# Altium footprint library PCB.PcbLib: 41 footprints (part 1 of 3)
Each footprint in its own frame and in the unit in brackets; x right, y up, seen from the top. Pads: shape width x height; smd on the part's side, far side on the other; paste and mask are expansions set on the pad; w line width, h text height; cw(c..) or ccw(c..) is an arc to the next point about the centre after c.
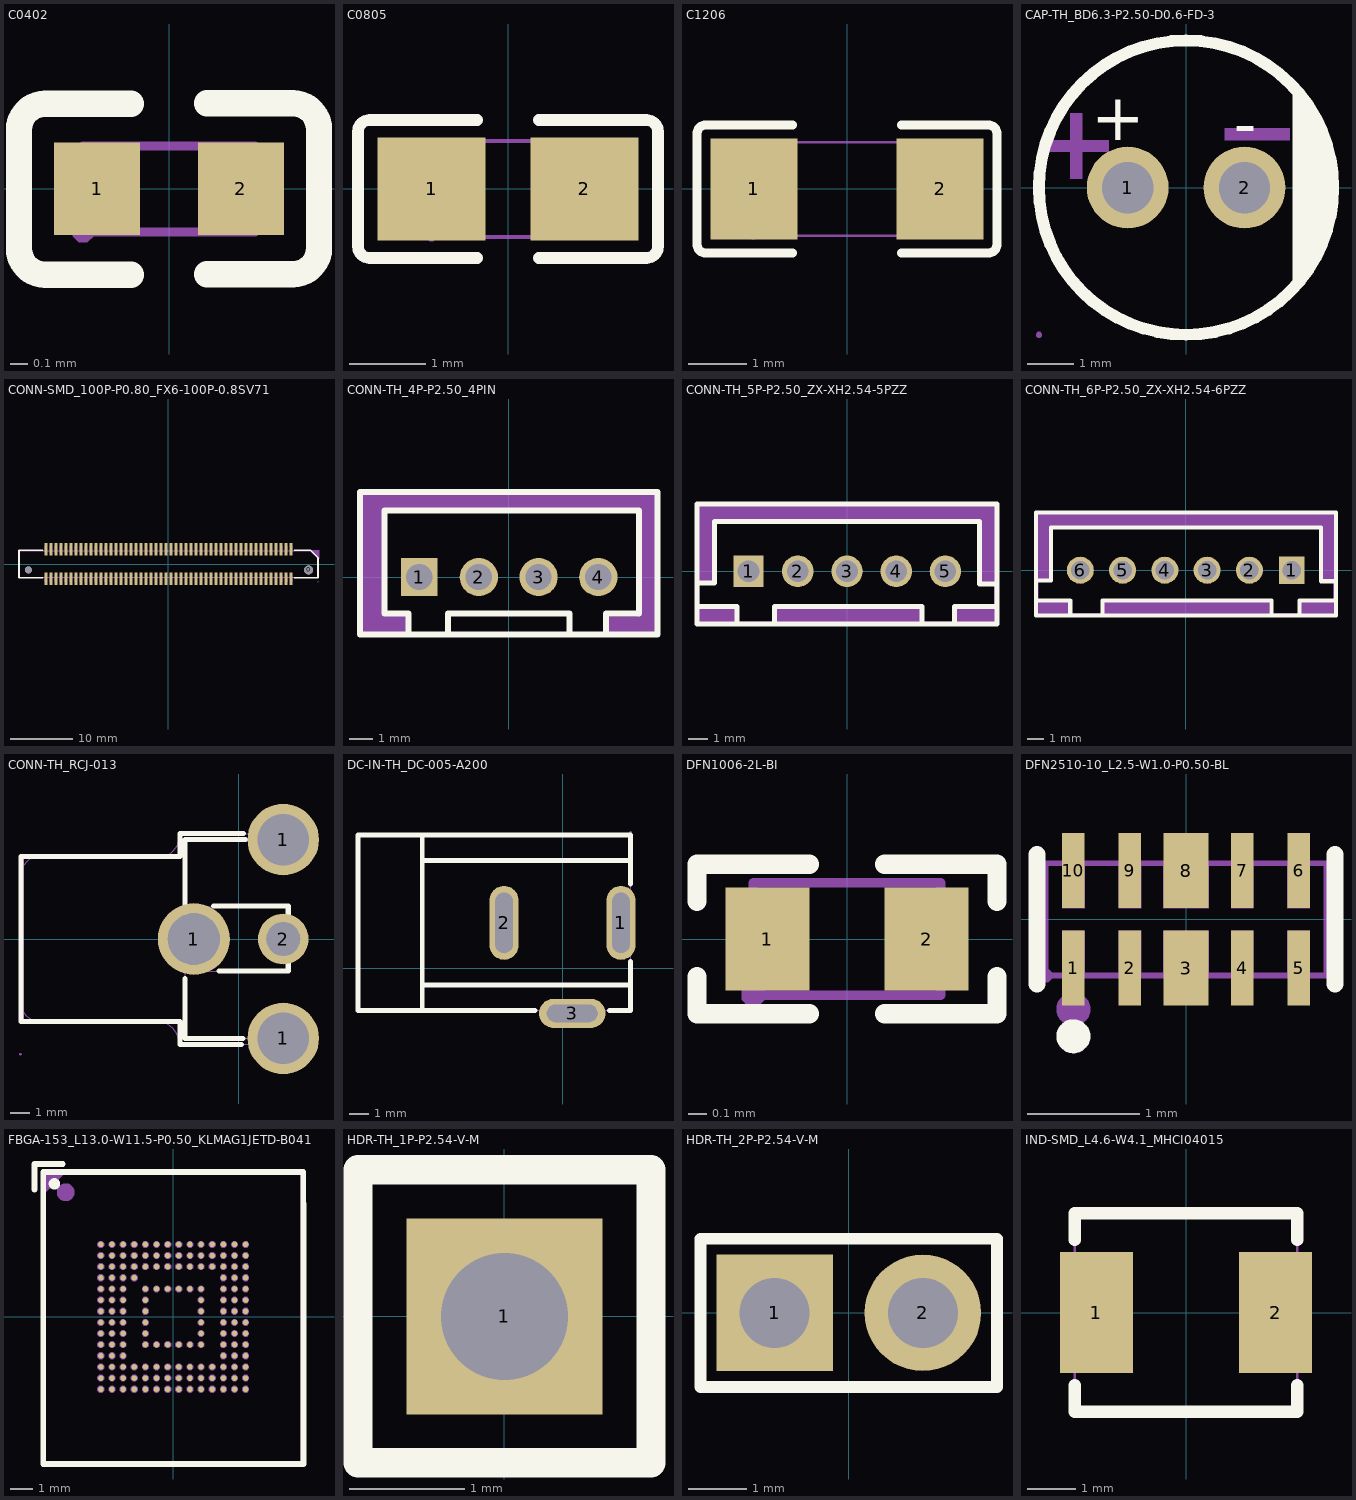
[diagram p0: the footprints below, top view; thin cyan lines are the x and y axes]

## C0402 [mil]
pads (2):
  rect 19.7x21.3 smd: 1(-16.5,0) 2(16.5,0)
Top Overlay:
  lines w6: -8.7,-19.7 -28.4,-19.7 cw(c-28.4,-13.7) -34.4,-13.7 -34.4,13.5 cw(c-28.4,13.5) -28.4,19.5 -8.7,19.5 ; 8.7,-19.6 28.4,-19.6 ccw(c28.4,-13.6) 34.4,-13.6 34.4,13.6 ccw(c28.4,13.6) 28.4,19.6 8.7,19.6
Mechanical 7:
  lines w2: -19.7,-9.9 19.7,-9.9 19.7,9.8 -19.7,9.8 -19.7,-9.9
Mechanical 8:
  region: -17.3,-9.9 -17.3,-10.89 -18.71,-12.3 -20.69,-12.3 -22.1,-10.89 -22.1,-9.9 -22.1,-8.91 -20.69,-7.5 -18.71,-7.5 -17.3,-8.91 -17.3,-9.9
Mechanical 9:
  region: 19.7,-9.9 19.7,9.8 9.8,9.8 9.8,-9.9
  region: -19.7,-9.9 -19.7,9.8 -9.8,9.8 -9.8,-9.9

## C0805 [mil]
pads (2):
  rect 55.5x53.1 smd paste-3937 mask+2: 1(-39.4,0) 2(39.4,0)
Top Overlay:
  lines w6: -15.8,-35.6 -71.3,-35.6 cw(c-71.3,-29.6) -77.3,-29.6 -77.3,29.5 cw(c-71.3,29.5) -71.3,35.5 -15.8,35.5 ; 15.8,-35.6 71.3,-35.6 ccw(c71.3,-29.6) 77.3,-29.6 77.3,29.5 ccw(c71.3,29.5) 71.3,35.5 15.8,35.5
Top Paste:
  region: -67.1,-25.2 -67.1,25.1 -65.1,27.1 -19.9,27.1 -17.9,25.1 -17.7,9 -35.4,9 -35.4,-8.7 -18.1,-8.7 -17.9,-25.2 -19.9,-27.2 -65.1,-27.2
  region: 67.1,25.1 67.1,-25.2 65.2,-27.2 19.9,-27.2 17.9,-25.2 17.7,-9.1 35.4,-9.1 35.4,8.6 18.1,8.6 17.9,25.1 19.9,27.1 65.2,27.1
Mechanical 7:
  lines w2: -39.4,-24.7 -39.4,24.6 39.4,24.6 39.4,-24.7 -39.4,-24.7
Mechanical 8:
  region: -37,-24.7 -37,-25.69 -38.41,-27.1 -40.39,-27.1 -41.8,-25.69 -41.8,-24.7 -41.8,-23.71 -40.39,-22.3 -38.41,-22.3 -37,-23.71 -37,-24.7
Mechanical 9:
  region: -39.4,-24.7 -39.4,24.6 -19.7,24.6 -19.7,-24.7
  region: 39.4,24.6 39.4,-24.7 19.7,-24.7 19.7,24.6

## C1206 [mil]
pads (2):
  rect 58.5x68 smd paste-3937 mask+2: 1(-62.7,0) 2(62.7,0)
Top Overlay:
  lines w6: -36.5,-43.1 -94.9,-43.1 cw(c-94.9,-37.1) -100.9,-37.1 -100.9,37 cw(c-94.9,37) -94.9,43 -36.5,43 ; 36.5,-43.1 94.9,-43.1 ccw(c94.9,-37.1) 100.9,-37.1 100.9,37 ccw(c94.9,37) 94.9,43 36.5,43
Top Paste:
  region: 33.5,-30.1 33.5,-15.5 37.4,-11.6 49.4,-11.6 53.3,-7.7 53.3,7.6 49.4,11.5 37.4,11.5 33.5,15.5 33.5,30 37.4,34 88,34 91.9,30 91.9,-30.1 88,-34.1 37.4,-34.1
  region: -33.5,-30.1 -33.5,-15.5 -37.4,-11.6 -49.4,-11.6 -53.4,-7.7 -53.4,7.6 -49.4,11.5 -37.4,11.5 -33.5,15.5 -33.5,30 -37.4,34 -88,34 -91.9,30 -91.9,-30.1 -88,-34.1 -37.4,-34.1
Mechanical 7:
  lines w2: -63,-31.5 -63,31.4 63,31.4 63,-31.5 -63,-31.5
Mechanical 8:
  region: -60.6,-31.5 -60.6,-32.49 -62.01,-33.9 -63.99,-33.9 -65.4,-32.49 -65.4,-31.5 -65.4,-30.51 -63.99,-29.1 -62.01,-29.1 -60.6,-30.51 -60.6,-31.5
Mechanical 9:
  region: -63,-31.5 -63,31.4 -43.3,31.4 -43.3,-31.5
  region: 63,-31.5 63,31.4 43.3,31.4 43.3,-31.5

## CAP-TH_BD6.3-P2.50-D0.6-FD-3 [mil]
pads (2):
  round 68.9 hole 43.3 paste-99999 mask+2: 1(-49.2,0) 2(49.2,0)
Top Overlay:
  circle w10: c0,0 r124
  region: 90,-90 90,85.4 89.98,85.38 94.29,81.07 102.02,71.66 108.79,61.53 114.53,50.78 119.19,39.52 122.73,27.87 125.11,15.92 126.3,3.79 126.3,-2.3 126.3,-8.39 125.11,-20.52 122.73,-32.47 119.19,-44.12 114.53,-55.38 108.79,-66.13 102.02,-76.26 94.29,-85.67 89.98,-89.98
  lines w10: -124,0 ccw(c0,0) 124,0 ccw(c0,0) -124,0
  text "-" at 40,35 h39.4
  text "+" at -80,40 h39.4
Mechanical 6:
  region: 32.5,50 87.5,50 87.5,40 32.5,40
  region: -97.5,7.5 -97.5,62.5 -87.5,62.5 -87.5,7.5
  region: -120,40 -65,40 -65,30 -120,30
Mechanical 7:
  lines w2: -124.1,0 -124.1,0.1 cw(c-0.1,0.1) -0.1,124.1 0,124.1 cw(c0,0.2) 123.9,0.2 123.9,-0.2 cw(c0,-0.2) 0,-124.1 ; -124,0 ccw(c0,0) 0,-124
Mechanical 8:
  region: -121.7,-124.1 -121.7,-125.09 -123.11,-126.5 -125.09,-126.5 -126.5,-125.09 -126.5,-124.1 -126.5,-123.11 -125.09,-121.7 -123.11,-121.7 -121.7,-123.11 -121.7,-124.1
Mechanical 9:
  region: -37.4,0 -37.4,-2.35 -39.2,-6.68 -42.52,-10 -46.85,-11.8 -51.55,-11.8 -55.88,-10 -59.2,-6.68 -61,-2.35 -61,0 -61,2.35 -59.2,6.68 -55.88,10 -51.55,11.8 -46.85,11.8 -42.52,10 -39.2,6.68 -37.4,2.35 -37.4,0
  region: 61,0 61,-2.35 59.2,-6.68 55.88,-10 51.55,-11.8 46.85,-11.8 42.52,-10 39.2,-6.68 37.4,-2.35 37.4,0 37.4,2.35 39.2,6.68 42.52,10 46.85,11.8 51.55,11.8 55.88,10 59.2,6.68 61,2.35 61,0

## CONN-SMD_100P-P0.80_FX6-100P-0.8SV71 [mil]
pads (102):
  round 43.31 hole 43.31 unplated paste-99999 mask+0: 0(-881.89,-37.4)
  round 55.12 hole 55.12 unplated paste-99999 mask+0: 0(881.91,-37.4)
  rect 19.7x78.7 smd paste+0 mask+2: 1(771.7,-92.5) 2(771.7,92.5) 3(740.2,-92.5) 4(740.2,92.5) 5(708.7,-92.5) 6(708.7,92.5) 7(677.2,-92.5) 8(677.2,92.5) 9(645.7,-92.5) 10(645.7,92.5) 11(614.2,-92.5) 12(614.2,92.5) 13(582.7,-92.5) 14(582.7,92.5) 15(551.2,-92.5) 16(551.2,92.5) 17(519.7,-92.5) 18(519.7,92.5) 19(488.2,-92.5) 20(488.2,92.5) 21(456.7,-92.5) 22(456.7,92.5) 23(425.2,-92.5) 24(425.2,92.5) 25(393.7,-92.5) 26(393.7,92.5) 27(362.2,-92.5) 28(362.2,92.5) 29(330.7,-92.5) 30(330.7,92.5) 31(299.2,-92.5) 32(299.2,92.5) 33(267.7,-92.5) 34(267.7,92.5) 35(236.2,-92.5) 36(236.2,92.5) 37(204.7,-92.5) 38(204.7,92.5) 39(173.3,-92.5) 40(173.3,92.5) 41(141.8,-92.5) 42(141.8,92.5) 43(110.3,-92.5) 44(110.3,92.5) 45(78.8,-92.5) 46(78.8,92.5) 47(47.3,-92.5) 48(47.3,92.5) 49(15.8,-92.5) 50(15.8,92.5) 51(-15.7,-92.5) 52(-15.7,92.5) 53(-47.2,-92.5) 54(-47.2,92.5) 55(-78.7,-92.5) 56(-78.7,92.5) 57(-110.2,-92.5) 58(-110.2,92.5) 59(-141.7,-92.5) 60(-141.7,92.5) 61(-173.2,-92.5) 62(-173.2,92.5) 63(-204.7,-92.5) 64(-204.7,92.5) 65(-236.2,-92.5) 66(-236.2,92.5) 67(-267.7,-92.5) 68(-267.7,92.5) 69(-299.2,-92.5) 70(-299.2,92.5) 71(-330.7,-92.5) 72(-330.7,92.5) 73(-362.2,-92.5) 74(-362.2,92.5) 75(-393.7,-92.5) 76(-393.7,92.5) 77(-425.2,-92.5) 78(-425.2,92.5) 79(-456.7,-92.5) 80(-456.7,92.5) 81(-488.2,-92.5) 82(-488.2,92.5) 83(-519.7,-92.5) 84(-519.7,92.5) 85(-551.2,-92.5) 86(-551.2,92.5) 87(-582.7,-92.5) 88(-582.7,92.5) 89(-614.1,-92.5) 90(-614.1,92.5) 91(-645.6,-92.5) 92(-645.6,92.5) 93(-677.1,-92.5) 94(-677.1,92.5) 95(-708.6,-92.5) 96(-708.6,92.5) 97(-740.1,-92.5) 98(-740.1,92.5) 99(-771.6,-92.5) 100(-771.6,92.5)
Top Overlay:
  lines w10: -790.6,-86.6 -940.9,-86.6 -940.9,86.6 -790.6,86.6 ; 790.6,-86.6 941,-86.6 941,39.4 893.7,86.6 790.6,86.6
Mechanical 6:
  circle w17.7: c-881.9,-37.4 r8.9
  circle w23.6: c881.9,-37.4 r11.8
  region: 887.5,87.5 947.5,87.5 947.5,32.5
Mechanical 7:
  lines w2: -940.9,-84.7 941,-84.7 941,84.6 -940.9,84.6 -940.9,-84.7
Mechanical 8:
  region: 943.4,-112.2 943.4,-113.19 941.99,-114.6 940.01,-114.6 938.6,-113.19 938.6,-112.2 938.6,-111.21 940.01,-109.8 941.99,-109.8 943.4,-111.21 943.4,-112.2 943.3,-112.2
Mechanical 9:
  drawing of 100 lines, arcs and shapes, not listed

## CONN-TH_4P-P2.50_4PIN [mil]
pads (4):
  rect 60x63 hole 43.3: 1(-147.7,0)
  round 63 hole 43.3: 2(-49.3,0) 3(49.2,0) 4(147.6,0)
Top Overlay:
  lines w10: -165,-95 -165,-90 -165,-60 -205,-60 -205,110 215,110 215,-60 160,-60 160,-90 ; -100,-95 -100,-60 100,-60 100,-95 ; -245,-95 245,-95 245,140 -245,140 -245,-95
Mechanical 6:
  region: 160,-95 160,-65 210,-65 215,-60 215,110 -205,110 -205,-60 -165,-60 -165,-95 -245,-95 -245,140 245,140 245,-95
Mechanical 7:
  lines w2: -246.1,-94.5 -246.1,137.8 246,137.8 246,-94.5 -246.1,-94.5
Mechanical 8:
  region: -243.7,-94.5 -243.7,-95.49 -245.11,-96.9 -247.09,-96.9 -248.5,-95.49 -248.5,-94.5 -248.5,-93.51 -247.09,-92.1 -245.11,-92.1 -243.7,-93.51 -243.7,-94.5
Mechanical 9:
  region: -160.3,12.6 -135.1,12.6 -135.1,-12.6 -160.3,-12.6
  region: -61.9,12.6 -36.7,12.6 -36.7,-12.6 -61.9,-12.6
  region: 36.6,12.6 61.8,12.6 61.8,-12.6 36.6,-12.6
  region: 135,12.6 160.2,12.6 160.2,-12.6 135,-12.6

## CONN-TH_5P-P2.50_ZX-XH2.54-5PZZ [mil]
pads (5):
  rect 60x63 hole 43.3: 1(-196.9,0)
  round 63 hole 43.3: 2(-98.5,0) 3(0,0) 4(98.4,0) 5(196.8,0)
Top Overlay:
  lines w10: -300,-70.6 -220,-70.6 -220,-105.4 ; -300,-23.7 -265,-23.7 -265,99.6 265,99.6 265,-25.4 300,-25.4 ; -145.1,-105.4 -145.1,-70.4 150,-70.4 150,-105.4 ; 215.2,-105.4 215.2,-70.6 295.2,-70.6 ; -300,-105.4 -300,134.6 300,134.6 300,-105.4 -300,-105.4
Mechanical 6:
  region: -300,-70.6 -220,-70.6 -220,-105.4 -300,-105.4
  region: -145.1,-70.4 -145.1,-105.3 -145,-105.4 150,-105.4 150,-70.4
  region: -300,-23.7 -265,-23.7 -265,99.6 265,99.6 265,-25.4 300,-25.4 300,134.5 300,134.6 -300,134.6
  region: 215.2,-70.6 215.2,-105.4 300,-105.4 300,-75.3 300,-70.4 295.2,-70.6
Mechanical 7:
  lines w2: -295.3,-100.4 295.2,-100.4 295.2,131.9 -295.3,131.9 -295.3,-100.4
Mechanical 8:
  region: -292.9,-100.4 -292.9,-101.39 -294.31,-102.8 -296.29,-102.8 -297.7,-101.39 -297.7,-100.4 -297.7,-99.41 -296.29,-98 -294.31,-98 -292.9,-99.41 -292.9,-100.4
Mechanical 9:
  region: 85.8,12.6 111,12.6 111,-12.6 85.8,-12.6
  region: -12.6,12.6 12.6,12.6 12.6,-12.6 -12.6,-12.6
  region: -111.1,12.6 -85.9,12.6 -85.9,-12.6 -111.1,-12.6
  region: -209.5,12.6 -184.3,12.6 -184.3,-12.6 -209.5,-12.6
  region: 184.2,12.6 209.4,12.6 209.4,-12.6 184.2,-12.6

## CONN-TH_6P-P2.50_ZX-XH2.54-6PZZ [mil]
pads (6):
  rect 60x63 hole 43.3: 1(246.1,0)
  round 63 hole 43.3: 2(147.7,0) 3(49.2,0) 4(-49.2,0) 5(-147.6,0) 6(-246,0)
Top Overlay:
  lines w10: -349.2,-70.7 -269.2,-70.7 -269.2,-105.5 ; -349.2,-23.8 -314.2,-23.8 -314.2,99.5 215.8,99.5 314.3,99.5 314.3,-25.5 349.3,-25.5 ; -194.3,-105.5 -194.3,-70.5 100.8,-70.5 199.2,-70.5 199.2,-105.5 ; 264.5,-105.5 264.5,-70.7 344.5,-70.7 ; -349.2,-105.5 250.8,-105.5 349.2,-105.5 349.2,134.5 250.8,134.5 -349.2,134.5 -349.2,-105.5
Mechanical 6:
  region: 349.2,-25 314.7,-25 314.3,-25.5 314.3,99.5 -314.2,99.5 -314.2,-23.8 -349.2,-23.8 -349.2,134.4 -349.2,134.5 349.2,134.5
  region: 264.5,-70.7 264.5,-105.5 349.2,-105.5 349.2,-75.4 349.2,-70.5 344.5,-70.7
  region: -194.3,-70.5 -194.3,-105.4 -194.2,-105.5 194.2,-105.5 194.2,-70.5
  region: -349.2,-70.7 -269.2,-70.7 -269.2,-105.5 -349.2,-105.5
Mechanical 7:
  lines w2: -344.5,-100.4 344.5,-100.4 344.5,131.8 -344.5,131.8 -344.5,-100.4
Mechanical 8:
  region: -342.1,-100.4 -342.1,-101.39 -343.51,-102.8 -345.49,-102.8 -346.9,-101.39 -346.9,-100.4 -346.9,-99.41 -345.49,-98 -343.51,-98 -342.1,-99.41 -342.1,-100.4
Mechanical 9:
  region: 233.5,12.6 258.7,12.6 258.7,-12.6 233.5,-12.6
  region: 135.1,12.6 160.2,12.6 160.2,-12.6 135.1,-12.6
  region: -258.7,12.6 -233.5,12.6 -233.5,-12.6 -258.7,-12.6
  region: -160.2,12.6 -135,12.6 -135,-12.6 -160.2,-12.6
  region: -61.8,12.6 -36.6,12.6 -36.6,-12.6 -61.8,-12.6
  region: 36.6,12.6 61.8,12.6 61.8,-12.6 36.6,-12.6

## CONN-TH_RCJ-013 [mil]
pads (4):
  round 142.4 hole 102.4 slot 102.6 at 0 deg: 1(-88.5,0)
  round 141.7 hole 102.4 paste-99999 mask+2: 1(88.6,-196.8) 1(88.6,196.9)
  round 100.4 hole 66.9: 2(88.6,0)
Top Overlay:
  lines w10: -106.3,-78.3 -106.3,-196.8 8.7,-196.8 ; -106.3,66.9 -106.3,196.9 13.8,196.9 ; -49.2,65 98.5,65 98.5,-63 -38.8,-63 ; 5.9,-208.6 -116.1,-208.6 -116.1,-163.4 -431.1,-163.4 -431.1,163.4 -116.1,163.4 -116.1,208.7 9.9,208.7
Mechanical 6:
  region: -419.2,159.5 -425.1,159.5 -425.1,-159.4 -415.3,-159.4 -415.3,-167.3 -435,-167.3 -435,167.3 -419.2,167.3
Mechanical 7:
  lines w2: -432.5,-123.2 ccw(c-392.3,-123.2) -392.3,-163.4 -385,-163.4 -162.7,-163.4 ; -432.5,124 cw(c-393.1,124) -393.1,163.4 -156.8,163.4 ccw(c-156.8,202.8) -117.4,202.8 ; -432.4,-123.2 -432.4,123.2 -432.4,124 ; -162.7,-163.3 cw(c-162.7,-208.6) -117.4,-208.6 ; -117.5,-208.6 40,-208.6 40,-228.3 138.4,-228.3 138.4,-196.8 -105.7,-196.8 -105.7,-63.8 96.7,-63.8 96.7,64.2 -105.7,64.2 -105.7,196.9 138.4,196.9 138.4,228.4 40,228.4 40,208.7 -117.5,208.7 -117.5,202.8
Mechanical 8:
  region: -430,-228.3 -430,-229.29 -431.41,-230.7 -433.39,-230.7 -434.8,-229.29 -434.8,-228.3 -434.8,-227.31 -433.39,-225.9 -431.41,-225.9 -430,-227.31 -430,-228.3 -430.1,-228.3
Mechanical 9:
  region: -98.4,49.2 -78.7,49.2 -78.7,-49.2 -98.4,-49.2
  region: 78.8,25.6 98.5,25.6 98.5,-25.6 78.8,-25.6
  region: 39.4,-206.7 39.4,-187 137.8,-187 137.8,-206.7
  region: 39.4,187 39.4,206.7 137.8,206.7 137.8,187

## DC-IN-TH_DC-005-A200 [mil]
pads (3):
  oval 59.1x149.6 hole 35.4 slot 122.1 at 90 deg: 1(118.2,91.5) 2(-118.1,91.5)
  oval 133.9x59.1 hole 35.4 slot 102.4 at 0 deg: 3(19.7,-91.5)
Top Overlay:
  lines w10: -283.4,-85.6 -283.4,268.7 ; -280.3,-34.5 137.8,-34.5 ; -280.3,217.5 137.8,217.5 ; -55.8,-85.6 -413.3,-85.6 -413.3,268.7 137.8,268.7 137.8,170 ; 95.3,-85.6 137.8,-85.6 137.8,13
Mechanical 7:
  lines w2: -413.3,-85.6 137.8,-85.6 137.8,268.7 -413.3,268.7 -413.3,-85.6
Mechanical 8:
  region: 140.2,273.7 140.2,272.71 138.79,271.3 136.81,271.3 135.4,272.71 135.4,273.7 135.4,274.69 136.81,276.1 138.79,276.1 140.2,274.69 140.2,273.7
Mechanical 9:
  region: 104,48.2 104,134.8 132.3,134.8 132.3,48.2
  region: -103.9,134.8 -103.9,48.2 -132.2,48.2 -132.2,134.8
  region: -13.7,-77.4 53.2,-77.4 53.2,-105.7 -13.7,-105.7

## DFN1006-2L-BI [mil]
pads (2):
  rect 17.7x21.7 smd: 1(-16.7,0) 2(16.7,0)
Top Overlay:
  lines w4: -31.5,-7.9 -31.5,-15.7 -7.9,-15.7 ; -31.5,7.9 -31.5,15.7 -7.9,15.7 ; 7.9,-15.7 31.5,-15.7 31.5,-7.9 ; 7.9,15.7 31.5,15.7 31.5,7.9
Mechanical 7:
  lines w2: -19.7,-11.8 -19.7,11.8 19.7,11.8 19.7,-11.8 -19.7,-11.8
Mechanical 8:
  region: -17.3,-11.8 -17.3,-12.79 -18.71,-14.2 -20.69,-14.2 -22.1,-12.79 -22.1,-11.8 -22.1,-10.81 -20.69,-9.4 -18.71,-9.4 -17.3,-10.81 -17.3,-11.8
Mechanical 9:
  region: 8.9,10 18.7,10 18.7,-10 8.9,-10
  region: -18.7,10 -8.9,10 -8.9,-10 -18.7,-10

## DFN2510-10_L2.5-W1.0-P0.50-BL [mil]
pads (10):
  rect 7.9x26.2 smd paste-3937 mask+2: 1(-39.4,-17.1) 2(-19.7,-17.1) 4(19.7,-17.1) 5(39.4,-17.1) 6(39.4,17) 7(19.7,17) 9(-19.7,17) 10(-39.4,17)
  rect 15.7x26.2 smd paste-3937 mask+2: 3(0,-17.1) 8(0,17)
Top Overlay:
  circle w5.9: c-39.4,-41 r3
  lines w6: -52.2,-22.7 -52.2,22.6 ; 52.2,-22.7 52.2,22.6
Top Paste:
  region: -7.9,-4 7.9,-4 7.9,-30.2 -7.9,-30.2
  region: -7.9,30.1 7.9,30.1 7.9,3.9 -7.9,3.9
  region: -23.6,-4 -15.7,-4 -15.7,-30.2 -23.6,-30.2
  region: -43.3,-4 -35.4,-4 -35.4,-30.2 -43.3,-30.2
  region: 15.7,-4 23.6,-4 23.6,-30.2 15.8,-30.2
  region: 35.4,-4 43.3,-4 43.3,-30.2 35.4,-30.2
  region: 35.4,30.1 43.3,30.1 43.3,3.9 35.4,3.9
  region: 15.7,30.1 23.6,30.1 23.6,3.9 15.8,3.9
  region: -23.6,30.1 -15.7,30.1 -15.7,3.9 -23.6,3.9
  region: -43.3,30.1 -35.4,30.1 -35.4,3.9 -43.3,3.9
Mechanical 6:
  circle w5.9: c-39.4,-31.5 r3
Mechanical 7:
  lines w2: -49.2,-19.7 49.2,-19.7 49.2,19.6 -49.2,19.6 -49.2,-19.7
Mechanical 8:
  region: -46.8,-19.7 -46.8,-20.69 -48.21,-22.1 -50.19,-22.1 -51.6,-20.69 -51.6,-19.7 -51.6,-18.71 -50.19,-17.3 -48.21,-17.3 -46.8,-18.71 -46.8,-19.7
Mechanical 9:
  region: -7.9,-4 7.9,-4 7.9,-19.7 -7.9,-19.7
  region: -7.9,19.6 7.9,19.6 7.9,3.9 -7.9,3.9
  region: -43.3,19.6 -43.3,3.9 -35.4,3.9 -35.4,19.6
  region: -23.6,19.6 -23.6,3.9 -15.7,3.9 -15.7,19.6
  region: 15.8,19.6 15.8,3.9 23.6,3.9 23.6,19.6
  region: 35.4,19.6 35.4,3.9 43.3,3.9 43.3,19.6
  region: 35.4,-19.7 35.4,-4 43.3,-4 43.3,-19.7
  region: 15.8,-19.7 15.8,-4 23.6,-4 23.6,-19.7
  region: -23.6,-19.7 -23.6,-4 -15.7,-4 -15.7,-19.7
  region: -43.3,-19.7 -43.3,-4 -35.4,-4 -35.4,-19.7

## FBGA-153_L13.0-W11.5-P0.50_KLMAG1JETD-B041 [mil]
pads (153):
  round 9.8 smd paste-3937 mask+2: A1(-127.9,127.9) A2(-108.2,127.9) A3(-88.6,127.9) A4(-68.9,127.9) A5(-49.2,127.9) A6(-29.5,127.9) A7(-9.8,127.9) A8(9.9,127.9) A9(29.6,127.9) A10(49.2,127.9) A11(68.9,127.9) A12(88.6,127.9) A13(108.3,127.9) A14(128,127.9) B1(-127.9,108.2) B2(-108.2,108.2) B3(-88.6,108.2) B4(-68.9,108.2) B5(-49.2,108.2) B6(-29.5,108.2) B7(-9.8,108.2) B8(9.9,108.2) B9(29.6,108.2) B10(49.2,108.2) B11(68.9,108.2) B12(88.6,108.2) B13(108.3,108.2) B14(128,108.2) C1(-127.9,88.6) C2(-108.2,88.6) C3(-88.6,88.6) C4(-68.9,88.6) C5(-49.2,88.6) C6(-29.5,88.6) C7(-9.8,88.6) C8(9.9,88.6) C9(29.6,88.6) C10(49.2,88.6) C11(68.9,88.6) C12(88.6,88.6) C13(108.3,88.6) C14(128,88.6) D1(-127.9,68.9) D2(-108.2,68.9) D3(-88.6,68.9) D4(-68.9,68.9) D12(88.6,68.9) D13(108.3,68.9) D14(128,68.9) E1(-127.9,49.2) E2(-108.2,49.2) E3(-88.6,49.2) E5(-49.2,49.2) E6(-29.5,49.2) E7(-9.8,49.2) E8(9.9,49.2) E9(29.6,49.2) E10(49.2,49.2) E12(88.6,49.2) E13(108.3,49.2) E14(128,49.2) F1(-127.9,29.5) F2(-108.2,29.5) F3(-88.6,29.5) F5(-49.2,29.5) F10(49.2,29.5) F12(88.6,29.5) F13(108.3,29.5) F14(128,29.5) G1(-127.9,9.8) G2(-108.2,9.8) G3(-88.6,9.8) G5(-49.2,9.8) G10(49.2,9.8) G12(88.6,9.8) G13(108.3,9.8) G14(128,9.8) H1(-127.9,-9.9) H2(-108.2,-9.9) H3(-88.6,-9.9) H5(-49.2,-9.9) H10(49.2,-9.9) H12(88.6,-9.9) H13(108.3,-9.9) H14(128,-9.9) J1(-127.9,-29.5) J2(-108.2,-29.5) J3(-88.6,-29.5) J5(-49.2,-29.5) J10(49.2,-29.5) J12(88.6,-29.5) J13(108.3,-29.5) J14(128,-29.5) K1(-127.9,-49.2) K2(-108.2,-49.2) K3(-88.6,-49.2) K5(-49.2,-49.2) K6(-29.5,-49.2) K7(-9.8,-49.2) K8(9.9,-49.2) K9(29.6,-49.2) K10(49.2,-49.2) K12(88.6,-49.2) K13(108.3,-49.2) K14(128,-49.2) L1(-127.9,-68.9) L2(-108.2,-68.9) L3(-88.6,-68.9) L12(88.6,-68.9) L13(108.3,-68.9) L14(128,-68.9) M1(-127.9,-88.6) M2(-108.2,-88.6) M3(-88.6,-88.6) M4(-68.9,-88.6) M5(-49.2,-88.6) M6(-29.5,-88.6) M7(-9.8,-88.6) M8(9.9,-88.6) M9(29.6,-88.6) M10(49.2,-88.6) M11(68.9,-88.6) M12(88.6,-88.6) M13(108.3,-88.6) M14(128,-88.6) N1(-127.9,-108.3) N2(-108.2,-108.3) N3(-88.6,-108.3) N4(-68.9,-108.3) N5(-49.2,-108.3) N6(-29.5,-108.3) N7(-9.8,-108.3) N8(9.9,-108.3) N9(29.6,-108.3) N10(49.2,-108.3) N11(68.9,-108.3) N12(88.6,-108.3) N13(108.3,-108.3) N14(128,-108.3) P1(-127.9,-128) P2(-108.2,-128) P3(-88.6,-128) P4(-68.9,-128) P5(-49.2,-128) P6(-29.5,-128) P7(-9.8,-128) P8(9.9,-128) P9(29.6,-128) P10(49.2,-128) P11(68.9,-128) P12(88.6,-128) P13(108.3,-128) P14(128,-128)
Top Overlay:
  circle w10: c-210,235 r5
  lines w10: -245,225 -245,270 -195,270 ; -229.9,-260.1 230.1,-260.1 230.1,199.9 ; -229.9,-255.9 -229.9,255.9 230,255.9 230,199.9
Top Paste:
  drawing of 153 lines, arcs and shapes, not listed
Mechanical 6:
  circle w15.7: c-190,220 r7.9
  region: -190,255 -225,255 -225,220
Mechanical 7:
  lines w2: -226.3,-255.9 -226.3,255.9 226.4,255.9 226.4,-255.9 -226.3,-255.9
Mechanical 8:
  region: -223.9,255.9 -223.9,254.91 -225.31,253.5 -227.29,253.5 -228.7,254.91 -228.7,255.9 -228.7,256.89 -227.29,258.3 -225.31,258.3 -223.9,256.89 -223.9,255.9 -224,255.9
Mechanical 9:
  drawing of 153 lines, arcs and shapes, not listed

## HDR-TH_1P-P2.54-V-M [mil]
pads (1):
  rect 66.9x66.9 hole 43.3: 1(0,0)
Top Overlay:
  lines w10: -50,-50 -50,50 50,50 50,-50 -50,-50
Mechanical 7:
  lines w2: -50,-49.2 50,-49.2 50,49.2 -50,49.2 -50,-49.2
Mechanical 8:
  region: 52.4,49.2 52.4,48.21 50.99,46.8 49.01,46.8 47.6,48.21 47.6,49.2 47.6,50.19 49.01,51.6 50.99,51.6 52.4,50.19 52.4,49.2
Mechanical 9:
  region: -12.7,-12.8 -12.7,12.8 12.8,12.8 12.8,-12.8

## HDR-TH_2P-P2.54-V-M [mil]
pads (2):
  rect 78.7x78.7 hole 47.2: 1(-50,0)
  round 78.7 hole 47.2: 2(50,0)
Top Overlay:
  lines w8: -100,-50 -100,50 -25,50 100,50 100,-50 -100,-50
Mechanical 7:
  lines w2: -100,-49.2 100,-49.2 100,49.3 -100,49.3 -100,-49.2
Mechanical 8:
  region: -97.6,-49.2 -97.6,-50.19 -99.01,-51.6 -100.99,-51.6 -102.4,-50.19 -102.4,-49.2 -102.4,-48.21 -100.99,-46.8 -99.01,-46.8 -97.6,-48.21 -97.6,-49.2
Mechanical 9:
  region: -62.6,12.6 -37.4,12.6 -37.4,-12.5 -62.6,-12.5
  region: 37.4,12.6 62.6,12.6 62.6,-12.5 37.4,-12.5

## IND-SMD_L4.6-W4.1_MHCI04015 [mil]
pads (2):
  rect 59.1x98.4 smd: 1(-72.9,0) 2(72.8,0)
Top Overlay:
  lines w10: -90.6,-59.1 -90.6,-80.7 90.5,-80.7 90.5,-59.1 ; -90.6,59 -90.6,80.7 90.5,80.7 ; 90.5,59 90.5,80.6
Mechanical 7:
  lines w2: -90.6,-80.7 90.5,-80.7 90.5,80.7 -90.6,80.7 -90.6,-80.7
Mechanical 8:
  region: -88.2,-80.7 -88.2,-81.69 -89.61,-83.1 -91.59,-83.1 -93,-81.69 -93,-80.7 -93,-79.71 -91.59,-78.3 -89.61,-78.3 -88.2,-79.71 -88.2,-80.7
Mechanical 9:
  region: -51.2,29.5 -51.2,-29.6 -90.6,-29.6 -90.6,29.5
  region: 90.5,29.5 90.5,-29.6 51.1,-29.6 51.1,29.5